# Altium footprint library USB-268-BRY.PcbLib: 1 footprints
Each footprint in its own frame and in the unit in brackets; x right, y up, seen from the top. Pads: shape width x height; smd on the part's side, far side on the other; paste and mask are expansions set on the pad; w line width, h text height; cw(c..) or ccw(c..) is an arc to the next point about the centre after c.
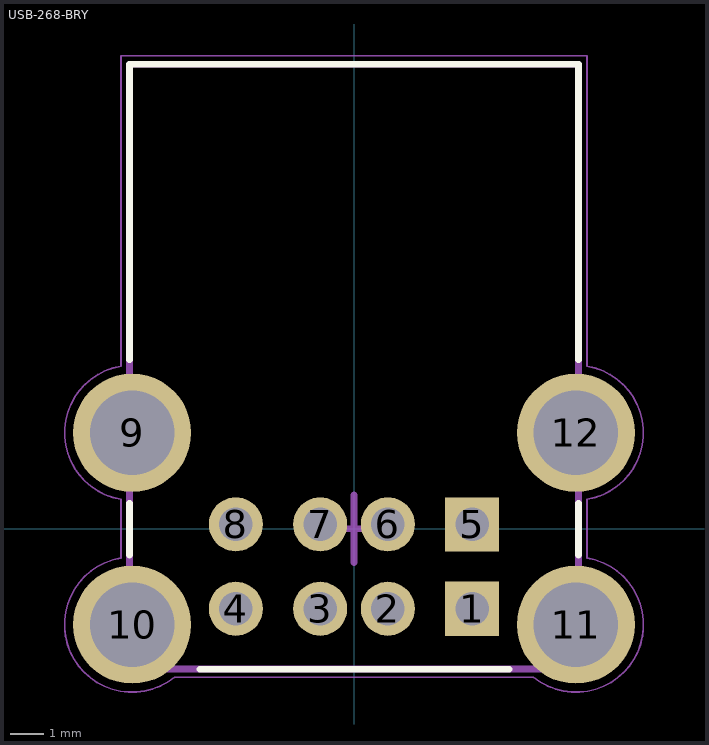
[diagram p0: the footprint, top view; thin cyan lines are the x and y axes]

## USB-268-BRY [mm]
pads (12):
  rect 1.6x1.6 hole 1 paste-2539.97 mask+0.05: 1(3.5,-2.37) 5(3.5,0.13)
  round 1.6 hole 1 paste-2539.97 mask+0.05: 2(1,-2.37) 3(-1,-2.37) 4(-3.5,-2.37) 6(1,0.13) 7(-1,0.13) 8(-3.5,0.13)
  round 3.5 hole 2.5 paste-2539.97 mask+0.05: 9(-6.57,2.84) 10(-6.57,-2.84) 11(6.57,-2.84) 12(6.57,2.84)
Top Overlay:
  lines w0.2: -6.65,-0.775 -6.65,0.75 ; -6.65,5 -6.65,13.75 6.65,13.75 6.65,5 ; -4.568,-4.16 4.593,-4.16 ; 6.65,-0.775 6.65,0.75
Top Assembly:
  lines w0.2: -1,0 1,0 ; 0,-1 0,1 ; -6.65,-4.15 6.65,-4.15 6.65,13.75 -6.65,13.75 -6.65,-4.15
Top Courtyard:
  lines w0.05: -6.9,-0.867 ccw(c-6.57,-2.84) -5.318,-4.4 5.318,-4.4 ccw(c6.57,-2.84) 6.9,-0.867 6.9,0.867 ccw(c6.57,2.84) 6.9,4.813 6.9,14 -6.9,14 -6.9,4.813 ccw(c-6.57,2.84) -6.9,0.867 -6.9,-0.867
Top Designator:
  text ".Designator" at -7.618,4.072 h1.52
3D body "usb double.STEP": height 15.69, standoff -3.06, extent -7.798,-4.18 7.798,13.74